# EAGLE library part 66100611622 (library WR-WTB)
WR-WTB 2.54 mm Male Vertical Shrouded Header Material Properties Insulator Material co Insulator Flammability Rating UL94 V-0 Color Black Contact Material Phosphor Bronze Contact Plating Tin General Information Operating Temperature -40 °C up to +125 °C Compliance RoHS IR 3 A Working Voltage 50 V (AC) Withstanding Voltage 500 V (AC) Contact Resistance 20 mΩ Pitch 2.54 mm Gender Male Type Vertical Packaging Properties Packaging Box Details see: www.we-online.com/en/components/products/WTB_2_54_MALE_VERTICAL_SHROUDED_HEADER_GLOW_WIRE_PLASTIC_6610XXX1622 Updated by Ella 2025-03-06 2025 (C) Würth Elektronik
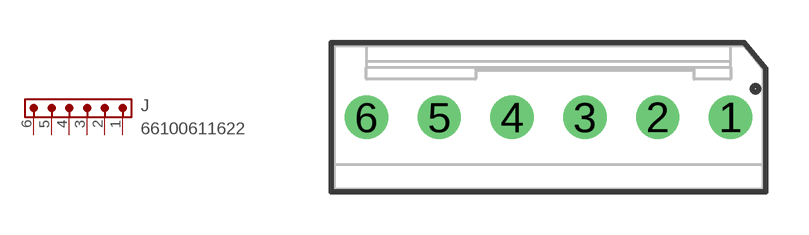
[diagram p108: symbol with the pads of 66100611622; footprint 66100611622]

Designator prefix J

## 66100611622 (CONTACT-RESISTANCE: 20mOhm; DATASHEET: https://www.we-online.com/redexpert/spec/66100611622?ae; GENDER: Male; IR: 3A; L: 14.94mm; MOUNT: THT; PACKAGING: Box; PART-NUMBER: 66100611622; PCB-CABLE-PANEL: PCB; PINS: 6; PITCH: 2.54mm; TYPE: Vertical; VALUE: 66100611622; WORKING-VOLTAGE: 50V(AC))  [66100611622]
1  1  pas
2  2  pas
3  3  pas
4  4  pas
5  5  pas
6  6  pas

## Footprint 66100611622 (pad centres in mm)
WR-WTB 2.54 mm Male Vertical Shrouded Header THT, 6Pins
drill 1: 1 6.35,0; 2 3.81,0; 3 1.27,0; 4 -1.27,0; 5 -3.81,0; 6 -6.35,0